# Altium footprint library PCB - MICROCONTROLLER - ESP01.PCBLIB: 1 footprints
Each footprint in its own frame and in the unit in brackets; x right, y up, seen from the top. Pads: shape width x height; smd on the part's side, far side on the other; paste and mask are expansions set on the pad; w line width, h text height; cw(c..) or ccw(c..) is an arc to the next point about the centre after c.
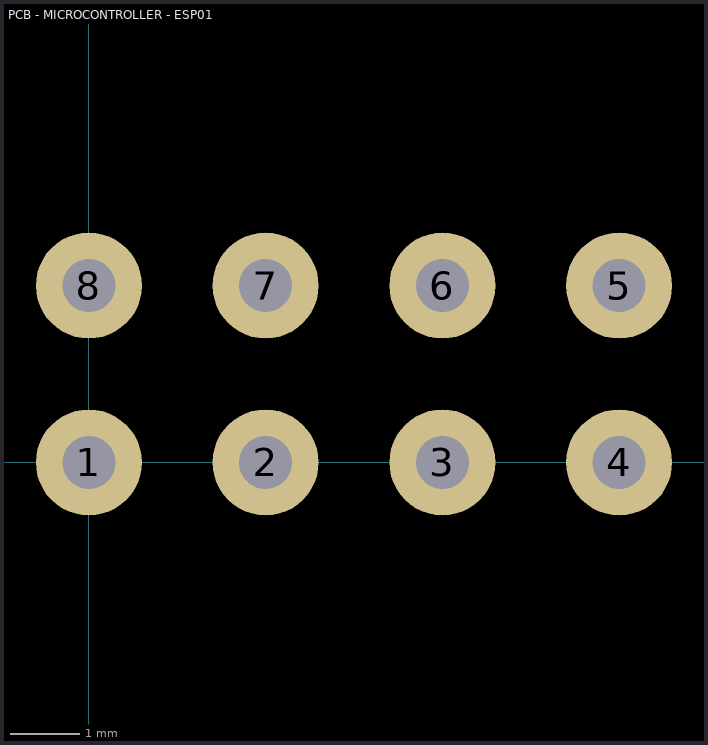
[diagram p0: the footprint, top view; thin cyan lines are the x and y axes]

## PCB - MICROCONTROLLER - ESP01 [mil] "ESP-01 WiFi Module"
pads (8):
  round 60 hole 30: 1(0,0) 2(100,0) 3(200,0) 4(300,0) 5(300,100) 6(200,100) 7(100,100) 8(0,100)
3D body "ESP8266_ESP01_cp.step": height 228.35, standoff -177.17, extent -137.8,-74.8 433.07,909.45